# Altium footprint library Varistor.PcbLib: 2 footprints
Each footprint in its own frame and in the unit in brackets; x right, y up, seen from the top. Pads: shape width x height; smd on the part's side, far side on the other; paste and mask are expansions set on the pad; w line width, h text height; cw(c..) or ccw(c..) is an arc to the next point about the centre after c.
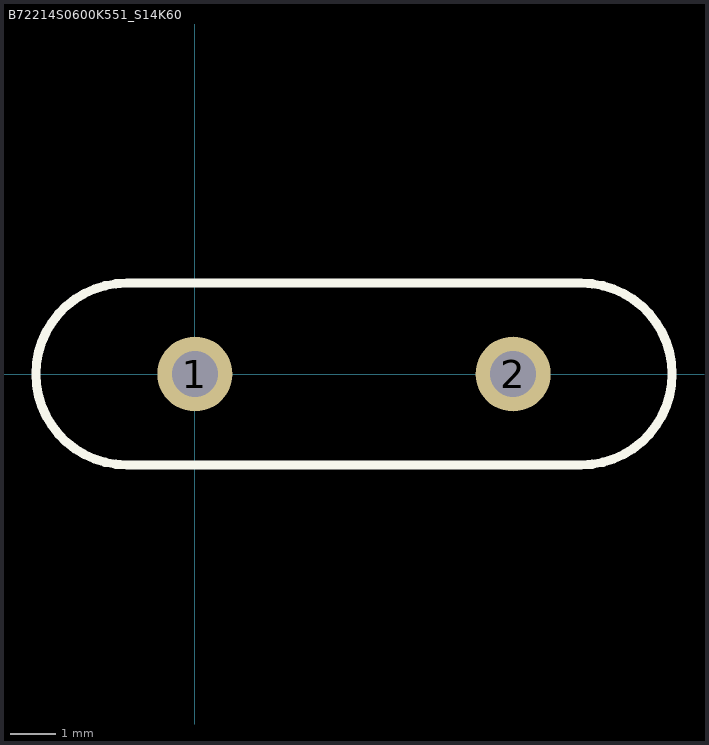
[diagram p0: the footprints below, top view; thin cyan lines are the x and y axes]

## B72214S0600K551_S14K60 [mm] "VARISTOR DISC 14MM THICKNESS 4MM"
height 18.5
pads (2):
  round 1.65 hole 1.01: 1(0,0) 2(7,0)
Top Overlay:
  lines w0.2: -1.5,-2 cw(c-1.5,0) -1.5,2 8.5,2 cw(c8.5,0) 8.5,-2 -1.5,-2
3D body: height 16, standoff 2, extent -3.5,-2 10.5,2

## PCBComponent_1 [mm]